# EAGLE library part LM393 (library user)
lm393 コンパレータ 秋月通販コード[I-09658]
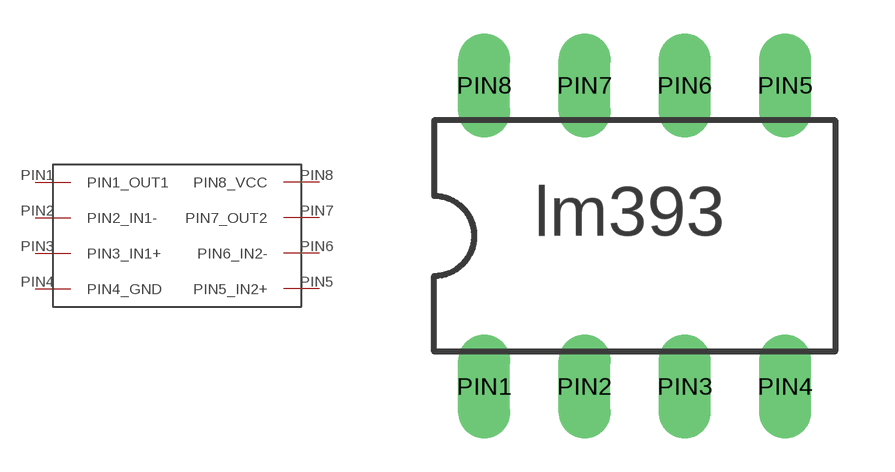
[diagram p19: symbol with the pads of LM393; footprint LM393]

Designator prefix -

## LM393  [LM393]
PIN1  PIN1_OUT1
PIN2  PIN2_IN1-
PIN3  PIN3_IN1+
PIN4  PIN4_GND
PIN5  PIN5_IN2+
PIN6  PIN6_IN2-
PIN7  PIN7_OUT2
PIN8  PIN8_VCC

## Footprint LM393 (pad centres in mm)
Dual In Line Package
drill 0.813 long: PIN1 -3.81,-3.81; PIN2 -1.27,-3.81; PIN3 1.27,-3.81; PIN4 3.81,-3.81; PIN5 3.81,3.81; PIN6 1.27,3.81; PIN7 -1.27,3.81; PIN8 -3.81,3.81